# Altium footprint library MOV_1812_4532.PcbLib: 1 footprints
Each footprint in its own frame and in the unit in brackets; x right, y up, seen from the top. Pads: shape width x height; smd on the part's side, far side on the other; paste and mask are expansions set on the pad; w line width, h text height; cw(c..) or ccw(c..) is an arc to the next point about the centre after c.
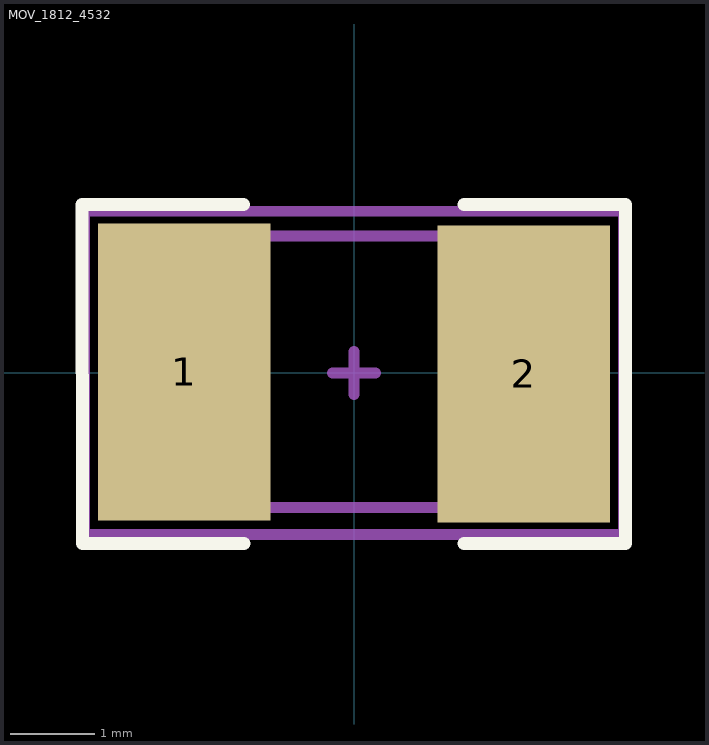
[diagram p0: the footprint, top view; thin cyan lines are the x and y axes]

## MOV_1812_4532 [mm]
pads (2):
  rect 2.032x3.5 smd: 1(-2,0.012) 2(2,-0.012)
Top Overlay:
  lines w0.152: -1.3,1.987 -3.205,1.987 -3.2,-2.013 -1.295,-2.013 ; 1.295,-2.013 3.2,-2.013 3.2,1.987 1.295,1.987
Top Assembly:
  lines w0.127: -2.2,-1.587 -2.2,1.613 2.3,1.613 2.3,-1.587 -2.2,-1.587
Top Courtyard:
  lines w0.127: -0.254,0 0.254,0 ; 0,-0.254 0,-0.127 0,0.254 ; -3.175,-1.905 -3.175,1.905 3.175,1.905 3.175,-1.905 -3.175,-1.905
3D body "User Library-V1812HD.STEP": height 1.99, standoff -0.01, extent -2.2,-1.587 2.3,1.613